# Altium footprint library SON.PcbLib: 19 footprints (part 1 of 2)
Each footprint in its own frame and in the unit in brackets; x right, y up, seen from the top. Pads: shape width x height; smd on the part's side, far side on the other; paste and mask are expansions set on the pad; w line width, h text height; cw(c..) or ccw(c..) is an arc to the next point about the centre after c.
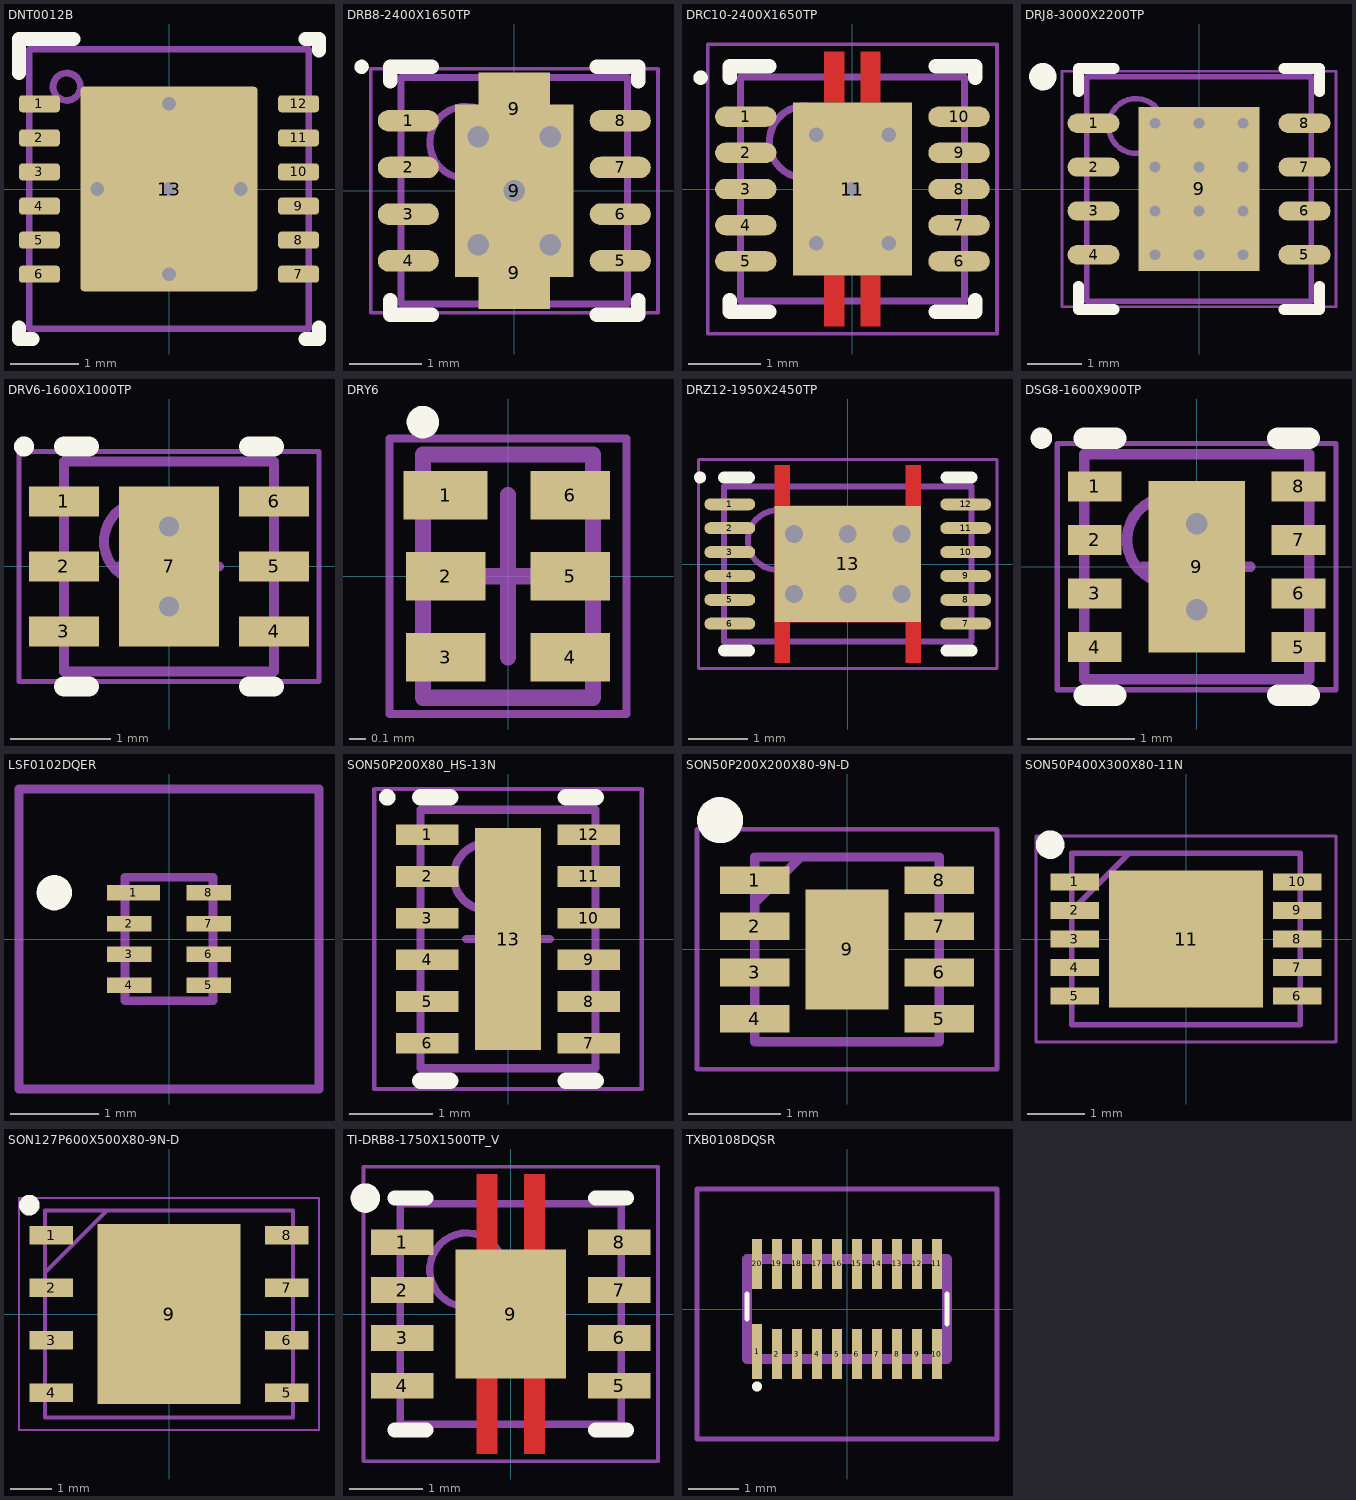
[diagram p0: the footprints below, top view; thin cyan lines are the x and y axes]

## DNT0012B [mm] "SON, 12-Leads, Body 4x4mm, Pitch 0.5mm"
height 0.8
pads (13):
  rrect40% 0.6x0.25 smd: 1(-1.9,1.25) 2(-1.9,0.75) 3(-1.9,0.25) 4(-1.9,-0.25) 5(-1.9,-0.75) 6(-1.9,-1.25) 7(1.9,-1.25) 8(1.9,-0.75) 9(1.9,-0.25) 10(1.9,0.25) 11(1.9,0.75) 12(1.9,1.25)
  rrect4% 2.6x3 smd paste-1.3: 13(0,0)
via 0,1.25 diameter 0.5 hole 0.2
via 0,-1.25 diameter 0.5 hole 0.2
via -1.05,0 diameter 0.5 hole 0.2
via 1.05,0 diameter 0.5 hole 0.2
via 0,0 diameter 0.5 hole 0.2
Top Overlay:
  lines w0.2: -2.2,-2.025 -2.2,-2.2 -2,-2.2 ; -2.2,1.7 -2.2,2.2 -1.4,2.2 ; 2,-2.2 2.2,-2.2 2.2,-2.025 ; 2,2.2 2.2,2.2 2.2,2.025
Top Paste:
  rectangle: 0.1,0.1 1.248,1.41
  region: -0.1,1.41 -1.248,1.41 -1.248,0.1 -0.1,0.1
  region: -0.1,-0.1 -1.248,-0.1 -1.248,-1.41 -0.1,-1.41
  rectangle: 0.1,-1.41 1.248,-0.1
Mechanical 5:
  circle w0.1: c-1.5,1.5 r0.2
  lines w0.1: -2.05,-2.05 2.05,-2.05 2.05,2.05 -2.05,2.05 -2.05,-2.05
3D body "DNT0012B.stp": height 0.81, standoff 0.01, extent -2,-2 2,2

## DRB8-2400X1650TP [mm] "SON, 8-Leads, Body 3x3mm, Pitch 0.65mm, Thermal Pad 2.4x1.65mm, TI Recommended"
height 1
pads (11):
  oval 0.85x0.3 smd paste-0.025 mask+0.07: 1(-1.475,0.975) 2(-1.475,0.325) 3(-1.475,-0.325) 4(-1.475,-0.975) 5(1.475,-0.975) 6(1.475,-0.325) 7(1.475,0.325) 8(1.475,0.975)
  rect 1x1 smd: 9(0,-1.143) 9(0,1.143)
  rect 1.65x2.4 smd paste-0.825 mask+0.07: 9(0,0)
via 0,0 diameter 0.6 hole 0.3
via 0.5,-0.75 diameter 0.6 hole 0.3
via -0.5,-0.75 diameter 0.6 hole 0.3
via -0.5,0.75 diameter 0.6 hole 0.3
via 0.5,0.75 diameter 0.6 hole 0.3
Top Overlay:
  circle w0.1: c-2.125,1.725 r0.05
  lines w0.2: -1.725,-1.525 -1.725,-1.725 -1.15,-1.725 ; -1.725,1.525 -1.725,1.725 -1.15,1.725 ; 1.15,-1.725 1.725,-1.725 1.725,-1.525 ; 1.15,1.725 1.725,1.725 1.725,1.525
Top Paste:
  rectangle: -0.775,0.125 -0.125,1.125
  region: 0.775,1.125 0.125,1.125 0.125,0.125 0.775,0.125
  region: 0.775,-0.125 0.125,-0.125 0.125,-1.125 0.775,-1.125
  rectangle: -0.775,-1.125 -0.125,-0.125
Mechanical 13:
  circle w0.1: c-0.675,0.675 r0.5
  lines w0.1: -1.575,-1.575 -1.575,1.575 1.575,1.575 1.575,-1.575 -1.575,-1.575
Mechanical 15:
  lines w0.05: -2,-1.7 -2,1.7 2,1.7 2,-1.7 -2,-1.7
  lines w0.1: -0.5,0 0.5,0 ; 0,-0.5 0,0.5
3D body "User Library-DRB(S-PVSON-N8).STEP": height 1, standoff -0.05, extent -1.52,-1.524 1.52,1.516

## DRC10-2400X1650TP [mm] "SON, 10-Leads, Body 3x3mm, Pitch 0.5mm, Thermal Pad 2.4x1.65mm, TI Recommended"
height 1
pads (11):
  oval 0.85x0.28 smd paste-0.025 mask+0.07: 1(-1.475,1) 2(-1.475,0.5) 3(-1.475,0) 4(-1.475,-0.5) 5(-1.475,-1) 6(1.475,-1) 7(1.475,-0.5) 8(1.475,0) 9(1.475,0.5) 10(1.475,1)
  rect 1.65x2.4 smd paste-0.825 mask+0.07: 11(0,0)
via 0.5,-0.75 diameter 0.5 hole 0.2
via -0.5,-0.75 diameter 0.5 hole 0.2
via -0.5,0.75 diameter 0.5 hole 0.2
via 0.5,0.75 diameter 0.5 hole 0.2
via 0,0 diameter 0.5 hole 0.2
Top Layer:
  rectangle: -0.39,-1.9 -0.11,-1.2
  region: 0.39,-1.2 0.11,-1.2 0.11,-1.9 0.39,-1.9
  region: 0.39,1.9 0.11,1.9 0.11,1.2 0.39,1.2
  rectangle: -0.39,1.2 -0.11,1.9
Top Overlay:
  circle w0.1: c-2.1,1.54 r0.05
  lines w0.2: -1.7,-1.54 -1.7,-1.7 -1.15,-1.7 ; -1.7,1.54 -1.7,1.7 -1.15,1.7 ; 1.15,-1.7 1.7,-1.7 1.7,-1.54 ; 1.15,1.7 1.7,1.7 1.7,1.54
Top Paste:
  rectangle: -0.79,-1.16 -0.11,-0.11
  region: 0.79,-0.11 0.11,-0.11 0.11,-1.16 0.79,-1.16
  region: 0.79,1.16 0.11,1.16 0.11,0.11 0.79,0.11
  rectangle: -0.38,-1.88 -0.12,-1.38
  region: 0.38,-1.38 0.12,-1.38 0.12,-1.88 0.38,-1.88
  region: 0.38,1.88 0.12,1.88 0.12,1.38 0.38,1.38
  rectangle: -0.38,1.38 -0.12,1.88
  rectangle: -0.79,0.11 -0.11,1.16
Mechanical 13:
  circle w0.1: c-0.65,0.65 r0.5
  lines w0.1: -1.55,-1.55 1.55,-1.55 1.55,1.55 -1.55,1.55 -1.55,-1.55
Mechanical 15:
  lines w0.05: -2,-2 2,-2 2,2 -2,2 -2,-2
3D body: height 1, standoff 0, extent -1.55,-1.55 1.55,1.55

## DRJ8-3000X2200TP [mm] "SON, 8-Leads, Body 4x4mm, Pitch 0.8mm, Thermal Pad 3x2.2mm, TI Recommended"
height 0.8
pads (9):
  oval 0.95x0.35 smd paste-0.025 mask+0.07: 1(-1.925,1.2) 2(-1.925,0.4) 3(-1.925,-0.4) 4(-1.925,-1.2) 5(1.925,-1.2) 6(1.925,-0.4) 7(1.925,0.4) 8(1.925,1.2)
  rect 2.2x3 smd paste-1.1 mask+0.07: 9(0,0)
via -0.8,0.4 diameter 0.5 hole 0.2
via -0.8,-0.4 diameter 0.5 hole 0.2
via -0.8,-1.2 diameter 0.5 hole 0.2
via -0.8,1.2 diameter 0.5 hole 0.2
via 0.8,-1.2 diameter 0.5 hole 0.2
via 0,-1.2 diameter 0.5 hole 0.2
via 0,1.2 diameter 0.5 hole 0.2
via 0.8,1.2 diameter 0.5 hole 0.2
via 0,0.4 diameter 0.5 hole 0.2
via 0.8,0.4 diameter 0.5 hole 0.2
via 0,-0.4 diameter 0.5 hole 0.2
via 0.8,-0.4 diameter 0.5 hole 0.2
Top Overlay:
  circle w0.25: c-2.85,2.05 r0.125
  lines w0.2: -2.2,-1.775 -2.2,-2.2 -1.55,-2.2 ; -2.2,1.775 -2.2,2.2 -1.55,2.2 ; 1.55,-2.2 2.2,-2.2 2.2,-1.775 ; 1.55,2.2 2.2,2.2 2.2,1.775
Top Paste:
  rectangle: -1.05,0.15 -0.15,1.45
  region: 1.05,1.45 0.15,1.45 0.15,0.15 1.05,0.15
  region: 1.05,-0.15 0.15,-0.15 0.15,-1.45 1.05,-1.45
  rectangle: -1.05,-1.45 -0.15,-0.15
Mechanical 13:
  circle w0.1: c-1.15,1.15 r0.5
  lines w0.1: -2.05,-2.05 -2.05,2.05 2.05,2.05 2.05,-2.05 -2.05,-2.05
Mechanical 15:
  lines w0.05: -2.5,-2.15 -2.5,2.15 2.5,2.15 2.5,-2.15 -2.5,-2.15
  lines w0.1: -0.5,0 0.5,0 ; 0,-0.5 0,0.5
3D body: height 0.8, standoff 0, extent -2.05,-2.05 2.05,2.05

## DRV6-1600X1000TP [mm] "SON, 6-Leads, Body 2x2mm, Pitch 0.65mm, Thermal Pad 1.6x1mm, TI Recommended"
height 0.8
pads (7):
  rect 0.7x0.3 smd paste-0.025 mask+0.07: 1(-1.05,0.65) 2(-1.05,0) 3(-1.05,-0.65) 4(1.05,-0.65) 5(1.05,0) 6(1.05,0.65)
  rect 1x1.6 smd paste-0.5 mask+0.07: 7(0,0)
via 0,0.4 diameter 0.5 hole 0.2
via 0,-0.4 diameter 0.5 hole 0.2
Top Overlay:
  circle w0.1: c-1.45,1.2 r0.05
  lines w0.2: -1.05,-1.2 -0.8,-1.2 ; -1.05,1.2 -0.8,1.2 ; 0.8,-1.2 1.05,-1.2 ; 0.8,1.2 1.05,1.2
Top Paste:
  rectangle: -0.4,-0.7 0.4,0.7
Mechanical 13:
  circle w0.1: c-0.25,0.25 r0.4
  lines w0.1: -1.05,-1.05 -1.05,1.05 1.05,1.05 1.05,-1.05 -1.05,-1.05
Mechanical 15:
  lines w0.05: -1.5,-1.15 -1.5,1.15 1.5,1.15 1.5,-1.15 -1.5,-1.15
  lines w0.1: -0.5,0 0.5,0 ; 0,-0.5 0,0.5
3D body: height 0.8, standoff 0, extent -1.05,-1.05 1.05,1.05

## DRY6 [mm] "PSON, 6-Leads, Body 1x1.45mm, Pitch 0.5mm, TI Recommended"
height 0.6
pads (6):
  rect 0.52x0.3 smd paste+0 mask+0.05: 1(-0.385,0.5)
  rect 0.49x0.3 smd paste+0 mask+0.05: 2(-0.385,0) 3(-0.385,-0.5) 4(0.385,-0.5) 5(0.385,0) 6(0.385,0.5)
Top Overlay:
  circle w0.1: c-0.525,0.95 r0.05
Mechanical 13:
  lines w0.1: -0.525,-0.75 -0.525,0.75 0.525,0.75 0.525,-0.75 -0.525,-0.75
Mechanical 15:
  lines w0.05: -0.73,-0.85 -0.73,0.85 0.73,0.85 0.73,-0.85 -0.73,-0.85
  lines w0.1: -0.5,0 0.5,0 ; 0,-0.5 0,0.5
3D body: height 0.6, standoff 0, extent -0.525,-0.75 0.525,0.75

## DRZ12-1950X2450TP [mm] "SON, 12-Leads, Body 4x2.5mm, Pitch 0.4mm, Thermal Pad 1.95x2.45mm, TI Recommended"
height 1
pads (13):
  oval 0.85x0.2 smd paste-0.1 mask+0.05: 1(-1.975,1) 2(-1.975,0.6) 3(-1.975,0.2) 4(-1.975,-0.2) 5(-1.975,-0.6) 6(-1.975,-1) 7(1.975,-1) 8(1.975,-0.6) 9(1.975,-0.2) 10(1.975,0.2) 11(1.975,0.6) 12(1.975,1)
  rect 2.45x1.95 smd paste-0.975 mask+0.05: 13(0,0)
via 0,-0.5 diameter 0.6 hole 0.3
via -0.9,-0.5 diameter 0.6 hole 0.3
via 0,0.5 diameter 0.6 hole 0.3
via -0.9,0.5 diameter 0.6 hole 0.3
via 0.9,0.5 diameter 0.6 hole 0.3
via 0.9,-0.5 diameter 0.6 hole 0.3
Top Layer:
  region: -1.225,-1.65 -1.225,1.65 -0.975,1.65 -0.975,0.975 0.975,0.975 0.975,1.65 1.225,1.65 1.225,-1.65 0.975,-1.65 0.975,-0.975 -0.975,-0.975 -0.975,-1.65
Top Overlay:
  circle w0.1: c-2.475,1.45 r0.05
  lines w0.2: -2.075,-1.45 -1.65,-1.45 ; -2.075,1.45 -1.65,1.45 ; 1.65,-1.45 2.075,-1.45 ; 1.65,1.45 2.075,1.45
Top Paste:
  region: 1.225,1.625 0.975,1.625 0.975,1.1 1.225,1.1
  region: 1.225,-1.1 0.975,-1.1 0.975,-1.625 1.225,-1.625
  rectangle: -1.225,-1.625 -0.975,-1.1
  rectangle: -1.225,1.1 -0.975,1.625
  rectangle: -1.1,-0.9 -0.1,-0.1
  region: 1.1,-0.1 0.1,-0.1 0.1,-0.9 1.1,-0.9
  region: 1.1,0.9 0.1,0.9 0.1,0.1 1.1,0.1
  rectangle: -1.1,0.1 -0.1,0.9
  lines w0.2: -2.275,-1 -1.675,-1 ; -2.275,-0.6 -1.675,-0.6 ; -2.275,-0.2 -1.675,-0.2 ; -2.275,0.2 -1.675,0.2 ; -2.275,0.6 -1.675,0.6 ; -2.275,1 -1.675,1 ; 1.675,-1 2.275,-1 ; 1.675,-0.6 2.275,-0.6 ; 1.675,-0.2 2.275,-0.2 ; 1.675,0.2 2.275,0.2 ; 1.675,0.6 2.275,0.6 ; 1.675,1 2.275,1
Mechanical 13:
  circle w0.1: c-1.175,0.4 r0.5
  lines w0.1: -2.075,-1.3 2.075,-1.3 2.075,1.3 -2.075,1.3 -2.075,-1.3
Mechanical 15:
  lines w0.05: -2.5,-1.75 2.5,-1.75 2.5,1.75 -2.5,1.75 -2.5,-1.75
  lines w0.1: -0.5,0 0.5,0 ; 0,-0.5 0,0.5
3D body: height 1, standoff 0, extent -2.075,-1.3 2.075,1.3

## DSG8-1600X900TP [mm] "SON, 8-Leads, Body 2x2mm, Pitch 0.5mm, Thermal Pad 1.6x0.9mm, TI Recommended"
height 0.8
pads (9):
  rect 0.5x0.28 smd paste-0.14 mask+0.07: 1(-0.95,0.75) 2(-0.95,0.25) 3(-0.95,-0.25) 4(-0.95,-0.75) 5(0.95,-0.75) 6(0.95,-0.25) 7(0.95,0.25) 8(0.95,0.75)
  rect 0.9x1.6 smd paste-0.45 mask+0.07: 9(0,0)
via 0,0.4 diameter 0.5 hole 0.2
via 0,-0.4 diameter 0.5 hole 0.2
Top Overlay:
  circle w0.1: c-1.45,1.2 r0.05
  lines w0.2: -1.05,-1.2 -0.755,-1.2 ; -1.05,1.2 -0.755,1.2 ; 0.755,-1.2 1.05,-1.2 ; 0.755,1.2 1.05,1.2
Top Paste:
  rectangle: -1.2,0.125 -0.7,0.375
  rectangle: -0.35,-0.65 0.35,0.65
  rectangle: -1.2,0.625 -0.7,0.875
  rectangle: -1.2,-0.375 -0.7,-0.125
  rectangle: -1.2,-0.875 -0.7,-0.625
  rectangle: 0.7,-0.875 1.2,-0.625
  rectangle: 0.7,-0.375 1.2,-0.125
  rectangle: 0.7,0.125 1.2,0.375
  rectangle: 0.7,0.625 1.2,0.875
Mechanical 13:
  circle w0.1: c-0.25,0.25 r0.4
  lines w0.1: -1.05,-1.05 1.05,-1.05 1.05,1.05 -1.05,1.05 -1.05,-1.05
Mechanical 15:
  lines w0.05: -1.3,-1.15 1.3,-1.15 1.3,1.15 -1.3,1.15 -1.3,-1.15
  lines w0.1: -0.5,0 0.5,0 ; 0,-0.5 0,0.5
3D body: height 0.8, standoff 0, extent -1.05,-1.05 1.05,1.05

## DSS0012B [mm] "WSON - 0.8 mm max height"
height 0.8

## LSF0102DQER [mm]
pads (8):
  rect 0.6x0.175 smd: 1(-0.4,0.525)
  rect 0.5x0.175 smd: 2(-0.45,0.175) 3(-0.45,-0.175) 4(-0.45,-0.525) 5(0.45,-0.525) 6(0.45,-0.175) 7(0.45,0.175) 8(0.45,0.525)
Top Overlay:
  lines w0.2: -1.4,0.525 cw(c-1.3,0.525) -1.2,0.525 ; -1.4,0.525 ccw(c-1.3,0.525) -1.2,0.525 ; -1.4,0.525 cw(c-1.3,0.525) -1.2,0.525
Mechanical 13:
  lines w0.1: -0.5,-0.7 0.5,-0.7 0.5,0.7 -0.5,0.7 -0.5,-0.7
Mechanical 15:
  lines w0.1: -1.7,-1.7 1.7,-1.7 1.7,1.7 -1.7,1.7 -1.7,-1.7
3D body "LSF0102DQER.stp": height 0.4, standoff 0, extent -0.5,-0.7 0.5,0.7

## SON50P200X80_HS-13N [mm] "SON, 12-Leads, Body 3,00x2,00mm, Pitch 0,50mm, Thermal Pad 2,66x0,79mm, IPC Medium Density"
height 0.8
pads (13):
  rect 0.75x0.25 smd: 1(-0.97,1.25) 2(-0.97,0.75) 3(-0.97,0.25) 4(-0.97,-0.25) 5(-0.97,-0.75) 6(-0.97,-1.25) 7(0.97,-1.25) 8(0.97,-0.75) 9(0.97,-0.25) 10(0.97,0.25) 11(0.97,0.75) 12(0.97,1.25)
  rect 0.79x2.66 smd: 13(0,0)
Top Overlay:
  circle w0.1: c-1.45,1.7 r0.05
  lines w0.2: -1.05,-1.7 -0.695,-1.7 ; -1.05,1.7 -0.695,1.7 ; 0.695,-1.7 1.05,-1.7 ; 0.695,1.7 1.05,1.7
Mechanical 13:
  circle w0.1: c-0.25,0.75 r0.4
  lines w0.1: -1.05,-1.55 1.05,-1.55 1.05,1.55 -1.05,1.55 -1.05,-1.55
Mechanical 15:
  lines w0.05: -1.605,-1.8 1.605,-1.8 1.605,1.8 -1.605,1.8 -1.605,-1.8
  lines w0.1: -0.5,0 0.5,0 ; 0,-0.5 0,0.5
3D body: height 0.8, standoff 0.08, extent -1.05,-1.55 1.05,1.55

## SON50P200X200X80-9N-D [mm]
pads (9):
  rect 0.75x0.3 smd: 1(-1,0.75) 2(-1,0.25) 3(-1,-0.25) 4(-1,-0.75) 5(1,-0.75) 6(1,-0.25) 7(1,0.25) 8(1,0.75)
  rect 0.9x1.3 smd: 9(0,0)
Top Overlay:
  circle w0.25: c-1.375,1.4 r0.125
Mechanical 13:
  lines w0.1: -1,0.5 -0.5,1 ; -1,-1 1,-1 1,1 -1,1 -1,-1
Mechanical 15:
  lines w0.05: -1.625,-1.3 1.625,-1.3 1.625,1.3 -1.625,1.3 -1.625,-1.3
3D body "MAX17048G+T10.stp": height 0.8, standoff 0, extent -1.05,-1 1.05,1

## SON50P400X300X80-11N [mm]
pads (11):
  rect 0.85x0.3 smd: 1(-1.95,1) 2(-1.95,0.5) 3(-1.95,0) 4(-1.95,-0.5) 5(-1.95,-1) 6(1.95,-1) 7(1.95,-0.5) 8(1.95,0) 9(1.95,0.5) 10(1.95,1)
  rect 2.7x2.4 smd: 11(0,0)
Top Overlay:
  circle w0.25: c-2.375,1.65 r0.125
Mechanical 13:
  lines w0.1: -2,0.5 -1,1.5 ; -2,-1.5 2,-1.5 2,1.5 -2,1.5 -2,-1.5
Mechanical 15:
  lines w0.05: -2.625,-1.8 2.625,-1.8 2.625,1.8 -2.625,1.8 -2.625,-1.8
3D body "MAX31850KATB+.stp": height 0.8, standoff 0, extent -2.05,-1.5 2.05,1.5

## SON127P600X500X80-9N-D [mm]
pads (9):
  rect 1.05x0.45 smd: 1(-2.85,1.905) 2(-2.85,0.635) 3(-2.85,-0.635) 4(-2.85,-1.905) 5(2.85,-1.905) 6(2.85,-0.635) 7(2.85,0.635) 8(2.85,1.905)
  rect 3.45x4.35 smd: 9(0,0)
Top Overlay:
  circle w0.25: c-3.375,2.63 r0.125
Mechanical 13:
  lines w0.1: -3,1 -1.5,2.5 ; -3,-2.5 3,-2.5 3,2.5 -3,2.5 -3,-2.5
Mechanical 15:
  lines w0.05: -3.625,-2.8 3.625,-2.8 3.625,2.8 -3.625,2.8 -3.625,-2.8
3D body "W25Q64JVZPIQ.stp": height 0.8, standoff 0, extent -3.05,-2.5 3.05,2.5

## TI-DRB8-1750X1500TP_V [mm] "SON, 8-Leads, Body 3x3mm, Pitch 0.65mm, Thermal Pad 1.50 x 3.8mm"
height 1
pads (9):
  rect 0.85x0.35 smd: 1(-1.475,0.975) 2(-1.475,0.325) 3(-1.475,-0.325) 4(-1.475,-0.975) 5(1.475,-0.975) 6(1.475,-0.325) 7(1.475,0.325) 8(1.475,0.975)
  rect 1.5x1.75 smd: 9(0,0)
Top Layer:
  region: 0.185,0.875 0.185,1.9 0.465,1.9 0.465,0.875
  region: -0.185,-0.875 -0.185,-1.9 -0.465,-1.9 -0.465,-0.875
  region: 0.185,-0.875 0.185,-1.9 0.465,-1.9 0.465,-0.875
  region: -0.185,0.875 -0.185,1.9 -0.465,1.9 -0.465,0.875
Top Overlay:
  circle w0.2: c-1.975,1.575 r0.1
  lines w0.2: -1.575,-1.575 -1.15,-1.575 ; -1.575,1.575 -1.15,1.575 ; 1.15,-1.575 1.575,-1.575 ; 1.15,1.575 1.575,1.575
Top Paste:
  region: -0.185,0.762 -0.185,1.9 -0.465,1.9 -0.465,0.762
  region: 0.185,-0.762 0.185,-1.9 0.465,-1.9 0.465,-0.762
  region: -0.185,-0.762 -0.185,-1.9 -0.465,-1.9 -0.465,-0.762
  region: 0.185,0.762 0.185,1.9 0.465,1.9 0.465,0.762
Mechanical 13:
  circle w0.1: c-0.6,0.6 r0.5
  lines w0.1: -1.5,-1.5 -1.5,1.5 1.5,1.5 1.5,-1.5 -1.5,-1.5
Mechanical 15:
  lines w0.05: -2,-2 2,-2 2,-1.675 2,1.675 2,2 -2,2 -2,1.675 -2,-1.675 -2,-2
  lines w0.1: -0.5,0 0.5,0 ; 0,-0.5 0,0.5
3D body: height 1, standoff 0, extent -1.5,-1.5 1.5,1.5

## TXB0108DQSR [mm]
pads (20):
  rect 0.2x1.1 smd: 1(-1.8,-0.85)
  rect 0.2x1 smd: 2(-1.4,-0.9) 3(-1,-0.9) 4(-0.6,-0.9) 5(-0.2,-0.9) 6(0.2,-0.9) 7(0.6,-0.9) 8(1,-0.9) 9(1.4,-0.9) 10(1.8,-0.9) 11(1.8,0.9) 12(1.4,0.9) 13(1,0.9) 14(0.6,0.9) 15(0.2,0.9) 16(-0.2,0.9) 17(-0.6,0.9) 18(-1,0.9) 19(-1.4,0.9) 20(-1.8,0.9)
Top Overlay:
  lines w0.1: -2,-0.2 -2,0.3 ; 2,-0.3 2,0.3 ; -1.85,-1.55 ccw(c-1.8,-1.55) -1.75,-1.55 ccw(c-1.8,-1.55) -1.85,-1.55
Mechanical 13:
  lines w0.2: -2,-1 -2,1 2,1 2,-1 -2,-1
Mechanical 15:
  lines w0.1: -3,-2.6 -3,2.4 3,2.4 3,-2.6 -3,-2.6
3D body "TXB0108DQSR.stp": height 0.55, standoff 0, extent -2,-1 2,1